# Altium footprint library PcbLib1.PcbLib: 1 footprints
Each footprint in its own frame and in the unit in brackets; x right, y up, seen from the top. Pads: shape width x height; smd on the part's side, far side on the other; paste and mask are expansions set on the pad; w line width, h text height; cw(c..) or ccw(c..) is an arc to the next point about the centre after c.
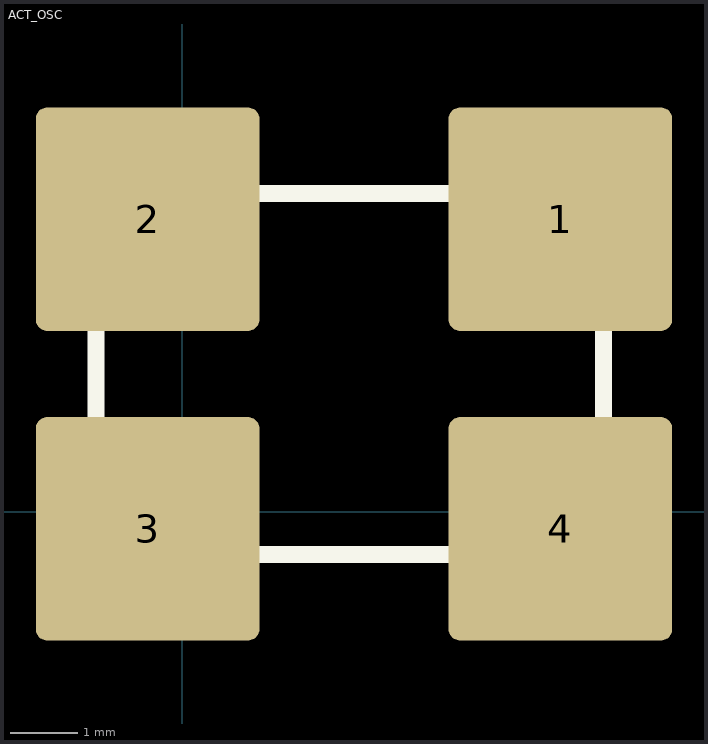
[diagram p0: the footprint, top view; thin cyan lines are the x and y axes]

## ACT_OSC [mil] "Active_oscillator"
pads (4):
  rrect10% 130x130 smd: 1(220,170) 2(-20,170) 3(-20,-10) 4(220,-10)
Top Overlay:
  lines w10: -50,-25 245,-25 245,185 -50,185 -50,-25